# EAGLE library part OPA358 (library texas-instruments)
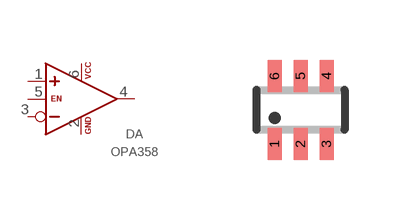
[diagram p16: symbol with the pads of SC70-6L; footprint SC70-6L]

Designator prefix DA

## OPA358AIDCKR  [SC70-6L]
1  IN+  in
2  GND  pwr
3  IN-  in
4  OUT  out
5  EN  in
6  VCC  pwr

## OPA358AIDCKT  [SC70-6L]
Pads as for SC70-6L

## Footprint SC70-6L (pad centres in mm)
SC-70 Package
smd 0.35 x 0.8: 1 -0.65,-0.85; 2 0,-0.85; 3 0.65,-0.85; 4 0.65,0.85; 5 0,0.85; 6 -0.65,0.85